# EAGLE library part 87758-4216 (library con-molex)
42 Pin - 2mm Dual Row Single Wafer, Vertical T/H HDR Source: http://www.molex.com/pdm_docs/sd/877580616_sd.pdf
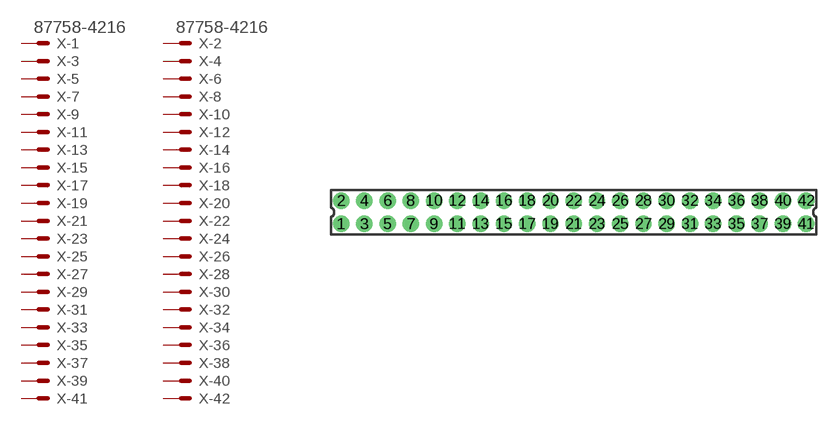
[diagram p189: symbol with the pads of 87758-4216; footprint 87758-4216]

Designator prefix X; gates -1=MV -2=MV -3=M -4=M -5=M -6=M -7=M -8=M -9=M -10=M -11=M -12=M -13=M -14=M -15=M -16=M -17=M -18=M -19=M -20=M -21=M -22=M -23=M -24=M -25=M -26=M -27=M -28=M -29=M -30=M -31=M -32=M -33=M -34=M -35=M -36=M -37=M -38=M -39=M -40=M -41=M -42=M

## 87758-4216  [87758-4216]
1  -1:S  pas
2  -2:S  pas
3  -3:S  pas
4  -4:S  pas
5  -5:S  pas
6  -6:S  pas
7  -7:S  pas
8  -8:S  pas
9  -9:S  pas
10  -10:S  pas
11  -11:S  pas
12  -12:S  pas
13  -13:S  pas
14  -14:S  pas
15  -15:S  pas
16  -16:S  pas
17  -17:S  pas
18  -18:S  pas
19  -19:S  pas
20  -20:S  pas
21  -21:S  pas
22  -22:S  pas
23  -23:S  pas
24  -24:S  pas
25  -25:S  pas
26  -26:S  pas
27  -27:S  pas
28  -28:S  pas
29  -29:S  pas
30  -30:S  pas
31  -31:S  pas
32  -32:S  pas
33  -33:S  pas
34  -34:S  pas
35  -35:S  pas
36  -36:S  pas
37  -37:S  pas
38  -38:S  pas
39  -39:S  pas
40  -40:S  pas
41  -41:S  pas
42  -42:S  pas

## Footprint 87758-4216 (pad centres in mm)
42 Pin - 2mm Dual Row Single Wafer, Vertical T/H HDR Source: http://www.molex.com/pdm_docs/sd/877580616_sd.pdf
drill 0.9 pad 1.27 round: 1 -20,-1; 2 -20,1; 3 -18,-1; 4 -18,1; 5 -16,-1; 6 -16,1; 7 -14,-1; 8 -14,1; 9 -12,-1; 10 -12,1; 11 -10,-1; 12 -10,1; 13 -8,-1; 14 -8,1; 15 -6,-1; 16 -6,1; 17 -4,-1; 18 -4,1; 19 -2,-1; 20 -2,1; 21 0,-1; 22 0,1; 23 2,-1; 24 2,1; 25 4,-1; 26 4,1; 27 6,-1; 28 6,1; 29 8,-1; 30 8,1; 31 10,-1; 32 10,1; 33 12,-1; 34 12,1; 35 14,-1; 36 14,1; 37 16,-1; 38 16,1; 39 18,-1; 40 18,1; 41 20,-1; 42 20,1